# EAGLE library part ADA4938-2 (library Analog)
ADA4938-2 Ultralow Distortion Differential ADC Driver. Extremely low harmonic distortion (HD) Low input voltage noise: 2.6 nV/√Hz Wide supply voltage range: +5 V to ±5 V Datasheet <http://www.analog.com/media/en/technical-documentation/data-sheets/ADA4938-1_4938-2.pdf>
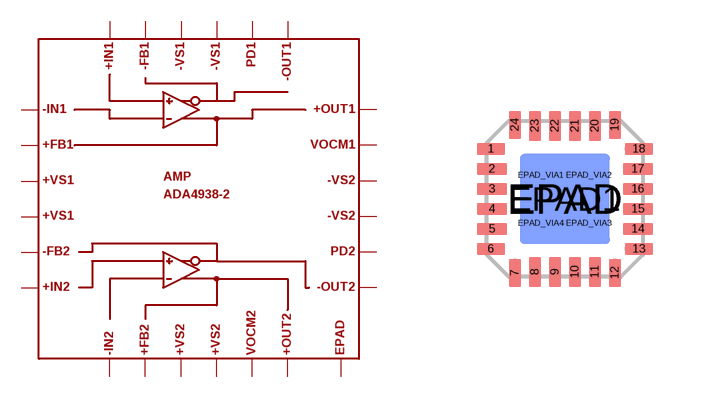
[diagram p1: symbol with the pads of LFCSP24; footprint LFCSP24]

Designator prefix AMP

## ADA4938-2  [LFCSP24]
1  P$1
2  P$2
3  P$3
4  P$4
5  P$5
6  P$6
7  P$7
8  P$8
9  P$9
10  P$10
11  P$11
12  P$12
13  P$13
14  P$14
15  P$15
16  P$16
17  P$17
18  P$18
19  P$19
20  P$20
21  P$21
22  P$22
23  P$23
24  P$24
EPAD  P$25
EPAD1  P$25
EPAD_VIA1  P$25
EPAD_VIA2  P$25
EPAD_VIA3  P$25
EPAD_VIA4  P$25

## Footprint LFCSP24 (pad centres in mm)
24-Lead Lead Frame Chip Scale Package 4 mm × 4 mm (CP-24) Source: www.analog.com .. 3832984220209AD8133_0.pdf
smd 0.7 x 0.3: 1 -1.85,1.25; 6 -1.85,-1.25; 13 1.85,-1.25; 18 1.85,1.25
smd 0.75 x 0.3: 2 -1.825,0.75; 3 -1.825,0.25; 4 -1.825,-0.25; 5 -1.825,-0.75; 14 1.825,-0.75; 15 1.825,-0.25; 16 1.825,0.25; 17 1.825,0.75
smd 0.3 x 0.7: 7 -1.25,-1.85; 12 1.25,-1.85; 19 1.25,1.85; 24 -1.25,1.85
smd 0.3 x 0.75: 8 -0.75,-1.825; 9 -0.25,-1.825; 10 0.25,-1.825; 11 0.75,-1.825; 20 0.75,1.825; 21 0.25,1.825; 22 -0.25,1.825; 23 -0.75,1.825
smd 2.25 x 2.25: EPAD 0,0
smd 2.25 x 2.25 bottom: EPAD1 0,0
drill 0.4: EPAD_VIA1 -0.6,0.6; EPAD_VIA2 0.6,0.6; EPAD_VIA3 0.6,-0.6; EPAD_VIA4 -0.6,-0.6